# EAGLE library part RP2040TR13 (library Limbo)
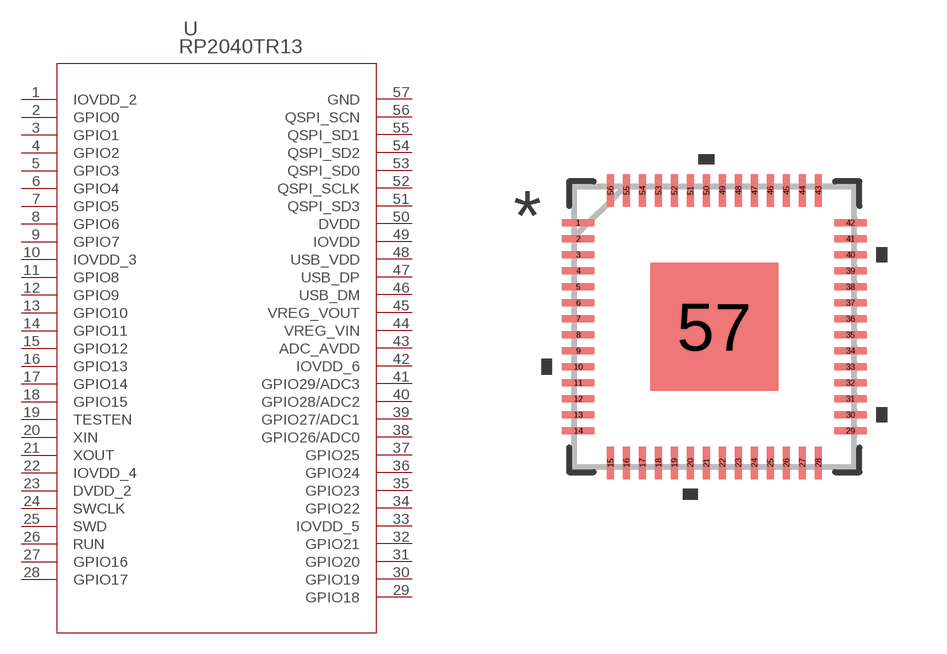
[diagram p1: symbol with the pads of QFN56_7X7_RPI; footprint QFN56_7X7_RPI]

Designator prefix U

## RP2040TR13 (COPYRIGHT: Copyright (C) 2022 Ultra Librarian. All rights reserved.; MANUFACTURER_PART_NUMBER: RP2040TR13; MFR_NAME: Raspberry Pi)  [QFN56_7X7_RPI]
1  IOVDD_2  pwr
2  GPIO0
3  GPIO1
4  GPIO2
5  GPIO3
6  GPIO4
7  GPIO5
8  GPIO6
9  GPIO7
10  IOVDD_3  pwr
11  GPIO8
12  GPIO9
13  GPIO10
14  GPIO11
15  GPIO12
16  GPIO13
17  GPIO14
18  GPIO15
19  TESTEN  in
20  XIN  pas
21  XOUT  pas
22  IOVDD_4  pwr
23  DVDD_2  pwr
24  SWCLK  in
25  SWD
26  RUN  in
27  GPIO16
28  GPIO17
29  GPIO18
30  GPIO19
31  GPIO20
32  GPIO21
33  IOVDD_5  pwr
34  GPIO22
35  GPIO23
36  GPIO24
37  GPIO25
38  GPIO26/ADC0
39  GPIO27/ADC1
40  GPIO28/ADC2
41  GPIO29/ADC3
42  IOVDD_6  pwr
43  ADC_AVDD  pwr
44  VREG_VIN  pwr
45  VREG_VOUT  out
46  USB_DM
47  USB_DP
48  USB_VDD  pwr
49  IOVDD  pwr
50  DVDD  pwr
51  QSPI_SD3
52  QSPI_SCLK
53  QSPI_SD0
54  QSPI_SD2
55  QSPI_SD1
56  QSPI_SCN
57  GND  pas

## Footprint QFN56_7X7_RPI (pad centres in mm)
smd 0.813 x 0.178: 1 -3.404,2.6; 2 -3.404,2.2; 3 -3.404,1.8; 4 -3.404,1.4; 5 -3.404,1; 6 -3.404,0.6; 7 -3.404,0.2; 8 -3.404,-0.2; 9 -3.404,-0.6; 10 -3.404,-1; 11 -3.404,-1.4; 12 -3.404,-1.8; 13 -3.404,-2.2; 14 -3.404,-2.6; 29 3.404,-2.6; 30 3.404,-2.2; 31 3.404,-1.8; 32 3.404,-1.4; 33 3.404,-1; 34 3.404,-0.6; 35 3.404,-0.2; 36 3.404,0.2; 37 3.404,0.6; 38 3.404,1; 39 3.404,1.4; 40 3.404,1.8; 41 3.404,2.2; 42 3.404,2.6
smd 0.178 x 0.813: 15 -2.6,-3.404; 16 -2.2,-3.404; 17 -1.8,-3.404; 18 -1.4,-3.404; 19 -1,-3.404; 20 -0.6,-3.404; 21 -0.2,-3.404; 22 0.2,-3.404; 23 0.6,-3.404; 24 1,-3.404; 25 1.4,-3.404; 26 1.8,-3.404; 27 2.2,-3.404; 28 2.6,-3.404; 43 2.6,3.404; 44 2.2,3.404; 45 1.8,3.404; 46 1.4,3.404; 47 1,3.404; 48 0.6,3.404; 49 0.2,3.404; 50 -0.2,3.404; 51 -0.6,3.404; 52 -1,3.404; 53 -1.4,3.404; 54 -1.8,3.404; 55 -2.2,3.404; 56 -2.6,3.404
smd 3.2 x 3.2: 57 0,0